# EAGLE library part IS66WV51216DBLL (library LITTLEBITS140915)
8Mb LOW VOLTAGE, ULTRA LOW POWER PSEUDO CMOS STATIC RAM
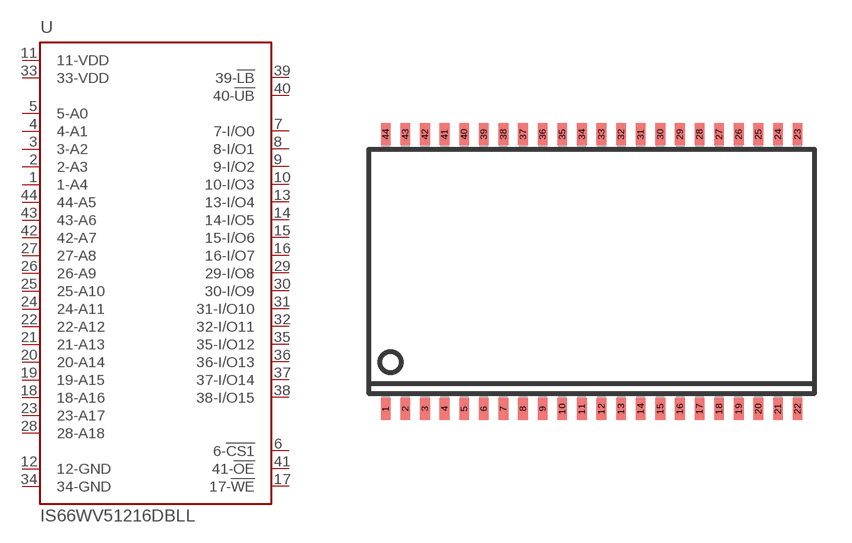
[diagram p61: symbol with the pads of TSOP44-II; footprint TSOP44-II]

Designator prefix -

## IS66WV51216DBLL  [TSOP44-II]
1  1-A4  in
2  2-A3  in
3  3-A2  in
4  4-A1  in
5  5-A0  in
6  6-!CS1  in
7  7-I/O0  in
8  8-I/O1  in
9  9-I/O2  in
10  10-I/O3  in
11  11-VDD  in
12  12-GND  in
13  13-I/O4  in
14  14-I/O5  in
15  15-I/O6  in
16  16-I/O7  in
17  17-!WE  in
18  18-A16  in
19  19-A15  in
20  20-A14  in
21  21-A13  in
22  22-A12  in
23  23-A17  in
24  24-A11  in
25  25-A10  in
26  26-A9  in
27  27-A8  in
28  28-A18  in
29  29-I/O8  in
30  30-I/O9  in
31  31-I/O10  in
32  32-I/O11  in
33  33-VDD  in
34  34-GND  in
35  35-I/O12  in
36  36-I/O13  in
37  37-I/O14  in
38  38-I/O15  in
39  39-!LB  in
40  40-!UB  in
41  41-!OE  in
42  42-A7  in
43  43-A6  in
44  44-A5  in

## Footprint TSOP44-II (pad centres in mm)
44 lead Plastic Thin Small Outline Type II Source: http://us.st.com/stonline/products/literature/ds/7995.pdf
smd 0.4 x 0.9: 1 -8.4,-5.6; 2 -7.6,-5.6; 3 -6.8,-5.6; 4 -6,-5.6; 5 -5.2,-5.6; 6 -4.4,-5.6; 7 -3.6,-5.6; 8 -2.8,-5.6; 9 -2,-5.6; 10 -1.2,-5.6; 11 -0.4,-5.6; 12 0.4,-5.6; 13 1.2,-5.6; 14 2,-5.6; 15 2.8,-5.6; 16 3.6,-5.6; 17 4.4,-5.6; 18 5.2,-5.6; 19 6,-5.6; 20 6.8,-5.6; 21 7.6,-5.6; 22 8.4,-5.6; 23 8.4,5.6; 24 7.6,5.6; 25 6.8,5.6; 26 6,5.6; 27 5.2,5.6; 28 4.4,5.6; 29 3.6,5.6; 30 2.8,5.6; 31 2,5.6; 32 1.2,5.6; 33 0.4,5.6; 34 -0.4,5.6; 35 -1.2,5.6; 36 -2,5.6; 37 -2.8,5.6; 38 -3.6,5.6; 39 -4.4,5.6; 40 -5.2,5.6; 41 -6,5.6; 42 -6.8,5.6; 43 -7.6,5.6; 44 -8.4,5.6